# Altium schematic symbol library Controle de luminosidade com ESP32 (2).SchLib: 9 symbols
Pins are listed as number, name and electrical type; pins without a type are passive.

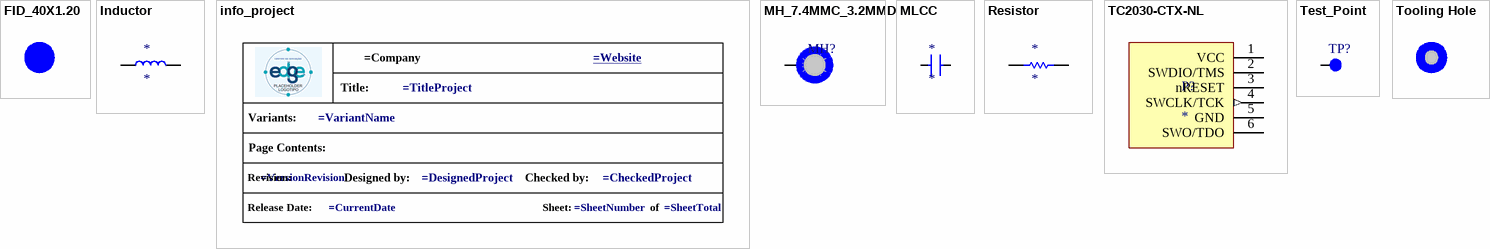
[diagram p0: symbols FID_40X1.20 to Tooling Hole]

## FID_40X1.20
designator FID?  (value not drawn)  (no BOM)
Fiducials
footprint FID_40X1.20

## Inductor
designator *
pins: 1, 2

## info_project
designator GPH?  (value not drawn)  (graphical)
GRAPHICAL - Info Project
text: Title:; Variants:; Page Contents:; Revision:; Designed by:; Checked by:; Release Date:; Sheet:; of

## MH_7.4MMC_3.2MMD
designator MH?  (value not drawn)  (no BOM)
Mounting Hole 7.4mm Diameter 3.2mm Drill
footprint MH_7.4MMC_3.2MMD
pins: 1

## MLCC
designator *
pins: 1, 2

## Resistor
designator *
pins: 1, 2

## TC2030-CTX-NL
designator P?  (no BOM)
6 pin Tag-Connect; .SCHChecked: Alex Batista; .PCBChecked: Alex Batista
footprint TC2030-CTX-NL
pins: 1 VCC, 2 SWDIO/TMS, 3 nRESET, 4 SWCLK/TCK (out), 5 GND, 6 SWO/TDO

## Test_Point
designator TP?, comment TestPoint  (value not drawn)  (no BOM)
MECH - Test Points
footprint Test Point
pins: 1

## Tooling Hole
designator TH?  (value not drawn)  (no BOM)
MECH - Tooling Holes
footprint Tooling Hole